# EAGLE library part PCA9306 (library work)
I2C Bidirectional Level Shifter
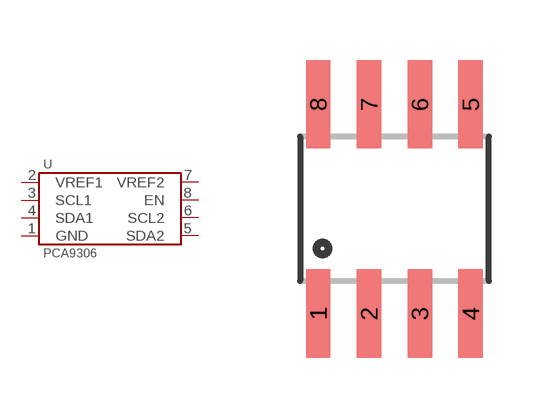
[diagram p70: symbol with the pads of SOIC-8; footprint SOIC-8]

Designator prefix U

## PCA9306  [SOIC-8]
1  GND
2  VREF1
3  SCL1
4  SDA1
5  SDA2
6  SCL2
7  VREF2
8  EN

## Footprint SOIC-8 (pad centres in mm)
smd 0.61 x 2.21: 1 -1.905,-2.616; 2 -0.635,-2.616; 3 0.635,-2.616; 4 1.905,-2.616; 5 1.905,2.616; 6 0.635,2.616; 7 -0.635,2.616; 8 -1.905,2.616